# Altium schematic symbol library RES0603.SchLib: 1 symbol
Pins are listed as number, name and electrical type; pins without a type are passive.

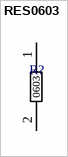
[diagram p0: symbol RES0603]

## RES0603
designator R?  (value not drawn)
footprint RES0603
pins: 1, 2
text: 0603